# Altium footprint library buzzer.PcbLib: 1 footprints
Each footprint in its own frame and in the unit in brackets; x right, y up, seen from the top. Pads: shape width x height; smd on the part's side, far side on the other; paste and mask are expansions set on the pad; w line width, h text height; cw(c..) or ccw(c..) is an arc to the next point about the centre after c.
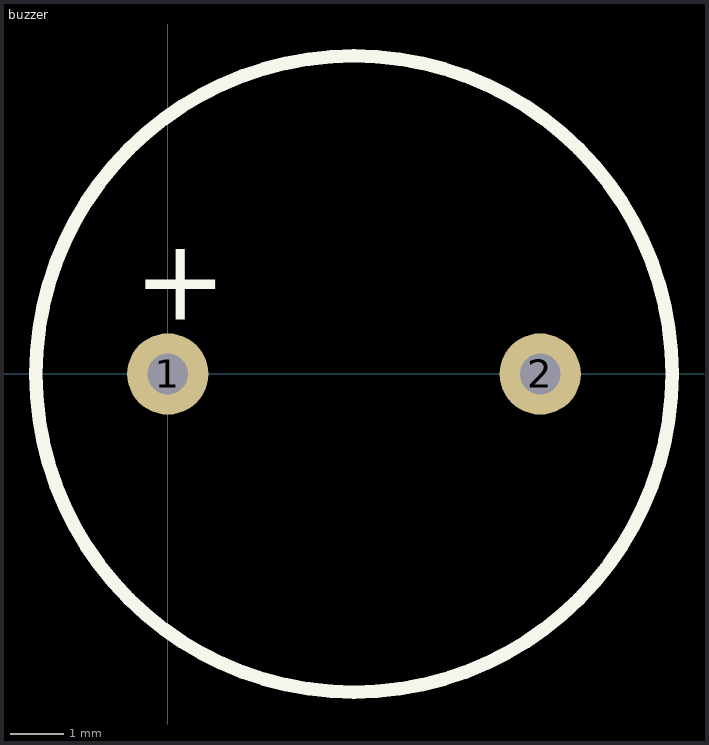
[diagram p0: the footprint, top view; thin cyan lines are the x and y axes]

## buzzer [mil] "buzzer"
pads (2):
  round 60 hole 30: 1(0,0) 2(275,0)
Top Overlay:
  circle w10: c137.5,0 r235
  text "+" at -25,40 h60
3D body "GT-111P.step": height 345.04, standoff -119.92, extent -98.72,-236.22 373.72,236.22